# Altium schematic symbol library CONNECTOR_RJ45.SchLib: 2 symbols
Pins are listed as number, name and electrical type; pins without a type are passive.

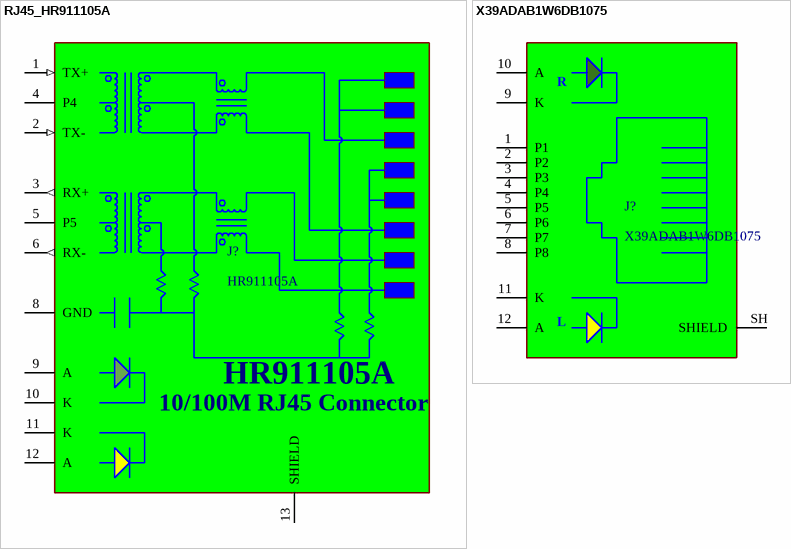
[diagram p0: symbols RJ45_HR911105A to X39ADAB1W6DB1075]

## RJ45_HR911105A
designator J?, comment HR911105A
RJ45 connector with internal isolated transformer and led.
footprint RJ45_HR911105A
pins: 1 TX+ (in), 2 TX- (in), 3 RX+ (out), 4 P4 (power), 5 P5 (power), 6 RX- (out), 8 GND (power), 9 A, 10 K, 11 K, 12 A, 13 SHIELD
text: 10/100M RJ45 Connector

## X39ADAB1W6DB1075
designator J?
Sinking plate RJ45 8P8C connector.
footprint X39ADAB1W6DB1075 (Sinking plate RJ45 connector)
pins: 1 P1, 2 P2, 3 P3, 4 P4, 5 P5, 6 P6, 7 P7, 8 P8, 9 K, 10 A, 11 K, 12 A, SH SHIELD
text: R; L